# EAGLE library part LCD_23WAY__UC1608 (library df4iah_connector)
Gfx-LCD UC1608 socket
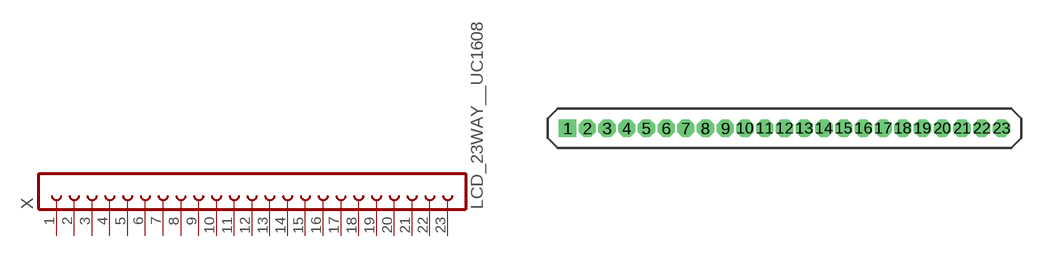
[diagram p13: symbol with the pads of 23X01_1MM27__UC1608; footprint 23X01_1MM27__UC1608]

Designator prefix X

## LCD_23WAY__UC1608  [23X01_1MM27__UC1608]
1  1  pas
2  2  pas
3  3  pas
4  4  pas
5  5  pas
6  6  pas
7  7  pas
8  8  pas
9  9  pas
10  10  pas
11  11  pas
12  12  pas
13  13  pas
14  14  pas
15  15  pas
16  16  pas
17  17  pas
18  18  pas
19  19  pas
20  20  pas
21  21  pas
22  22  pas
23  23  pas

## Footprint 23X01_1MM27__UC1608 (pad centres in mm)
Gfx-LCD UC1608 socket
drill 0.6 pad 0.8 square: 1 0,0
drill 0.6 pad 0.8 octagon: 2 1.27,0; 3 2.54,0; 4 3.81,0; 5 5.08,0; 6 6.35,0; 7 7.62,0; 8 8.89,0; 9 10.16,0; 10 11.43,0; 11 12.7,0; 12 13.97,0; 13 15.24,0; 14 16.51,0; 15 17.78,0; 16 19.05,0; 17 20.32,0; 18 21.59,0; 19 22.86,0; 20 24.13,0; 21 25.4,0; 22 26.67,0; 23 27.94,0